# Altium footprint library SR PCB Library V01.PcbLib: 402 footprints (part 16 of 26)
Each footprint in its own frame and in the unit in brackets; x right, y up, seen from the top. Pads: shape width x height; smd on the part's side, far side on the other; paste and mask are expansions set on the pad; w line width, h text height; cw(c..) or ccw(c..) is an arc to the next point about the centre after c.
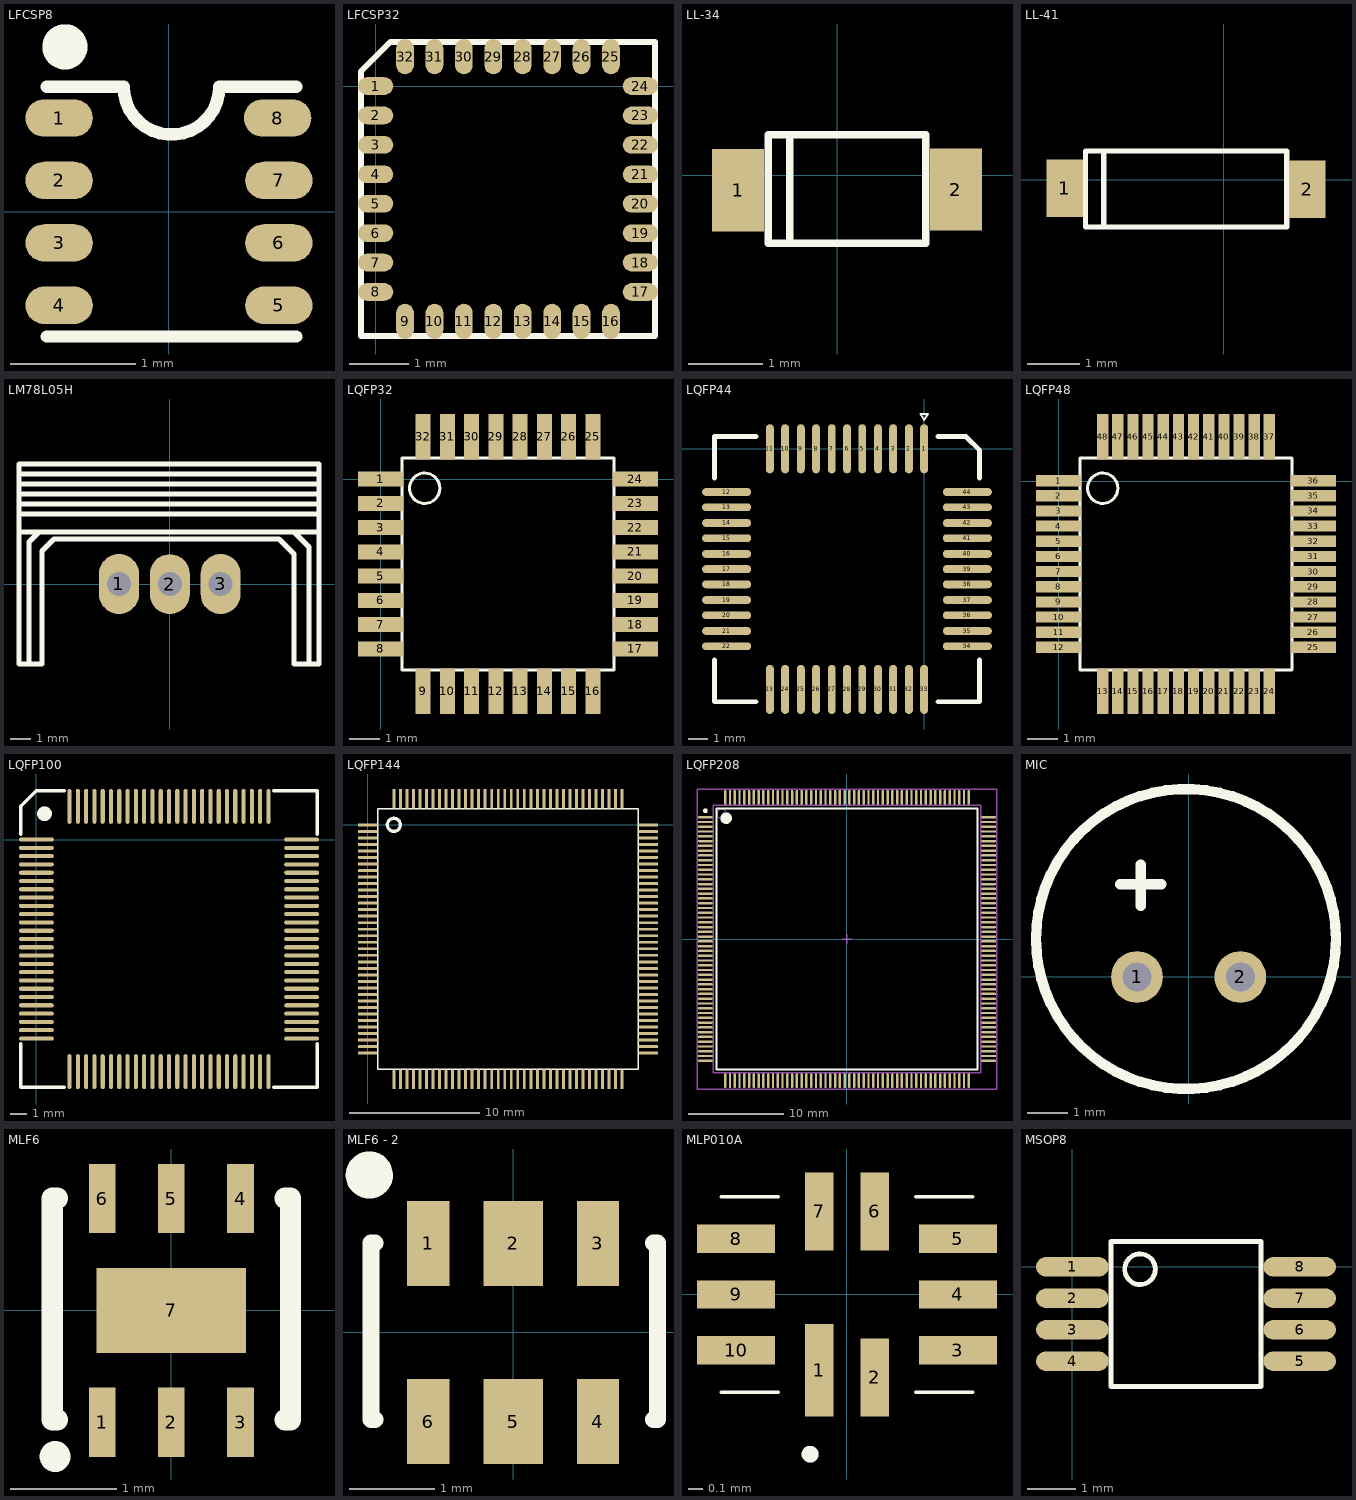
[diagram p15: the footprints below, top view; thin cyan lines are the x and y axes]

## LFCSP8 [mm] "2*2*0.55mm"
pads (8):
  oval 0.54x0.3 smd: 1(-0.88,0.75) 2(-0.88,0.25) 3(-0.88,-0.25) 4(-0.88,-0.75) 5(0.88,-0.75) 6(0.88,-0.25) 7(0.88,0.25) 8(0.87,0.75)
Top Overlay:
  circle w0.254: c-0.834,1.32 r0.054
  lines w0.1: -0.98,-1 1.02,-1 ; -0.98,1 -0.363,1 ccw(c0.02,1) 0.403,1 1.02,1

## LFCSP32 [mm]
pads (32):
  oval 0.6x0.3 smd: 1(0,0) 2(0,-0.5) 3(0,-1) 4(0,-1.5) 5(0,-2) 6(0,-2.5) 7(0,-3) 8(0,-3.5) 17(4.5,-3.5) 18(4.5,-3) 19(4.5,-2.5) 20(4.5,-2) 21(4.5,-1.5) 22(4.5,-1) 23(4.5,-0.5) 24(4.5,0)
  oval 0.3x0.6 smd: 9(0.5,-4) 10(1,-4) 11(1.5,-4) 12(2,-4) 13(2.5,-4) 14(3,-4) 15(3.5,-4) 16(4,-4) 25(4,0.5) 26(3.5,0.5) 27(3,0.5) 28(2.5,0.5) 29(2,0.5) 30(1.5,0.5) 31(1,0.5) 32(0.5,0.5)
Top Overlay:
  lines w0.1: -0.25,-4.25 4.75,-4.25 4.75,0.75 0.25,0.75 -0.25,0.25 -0.25,-4.25

## LL-34 [mm]
pads (2):
  rect 0.7x1.1 smd: 1(-1.329,-0.198) 2(1.589,-0.188)
Top Overlay:
  lines w0.1: -0.637,-0.857 -0.637,0.503 ; -0.924,-0.907 1.183,-0.907 1.183,0.543 -0.924,0.543 -0.924,-0.907

## LL-41 [mm]
pads (2):
  rect 0.7x1.1 smd: 1(-3.039,-0.165) 2(1.598,-0.184)
Top Overlay:
  lines w0.1: -2.295,-0.877 -2.295,0.531 ; -2.644,-0.907 1.206,-0.907 1.206,0.548 -2.644,0.548 -2.644,-0.907

## LM78L05H [mm]
pads (3):
  oval 2x3 hole 1.2: 1(-2.544,0.006) 2(0,0) 3(2.536,0.006)
Top Overlay:
  lines w0.254: -7.544,2.61 7.456,2.61 ; -7.544,3.506 7.456,3.506 ; -7.544,4.006 7.456,4.006 ; -7.544,4.506 7.456,4.506 ; -7.544,5.006 7.456,5.006 ; -7.544,5.506 7.456,5.506 ; -7.044,-3.994 -7.044,2.11 -6.544,2.61 ; 6.206,2.61 6.956,1.86 6.956,-3.994 ; -7.544,-3.994 -7.544,6.006 7.456,6.006 7.456,-3.994 6.206,-3.994 6.206,1.506 5.456,2.256 -5.794,2.256 -6.392,1.658 -6.392,-3.994 -7.544,-3.994

## LQFP32 [mm]
pads (32):
  rect 1.5x0.5 smd: 1(0,0) 2(0,-0.8) 3(0,-1.6) 4(0,-2.4) 5(0,-3.2) 6(0,-4) 7(0,-4.8) 8(0,-5.6) 17(8.4,-5.6) 18(8.4,-4.8) 19(8.4,-4) 20(8.4,-3.2) 21(8.4,-2.4) 22(8.4,-1.6) 23(8.4,-0.8) 24(8.4,0)
  rect 0.5x1.5 smd: 9(1.4,-7) 10(2.2,-7) 11(3,-7) 12(3.8,-7) 13(4.6,-7) 14(5.4,-7) 15(6.2,-7) 16(7,-7) 25(7,1.4) 26(6.2,1.4) 27(5.4,1.4) 28(4.6,1.4) 29(3.8,1.4) 30(3,1.4) 31(2.2,1.4) 32(1.4,1.4)
Top Overlay:
  circle w0.1: c1.45,-0.3 r0.5
  lines w0.1: 0.7,-6.3 0.7,0.7 7.7,0.7 7.7,-6.3 0.7,-6.3

## LQFP44 [mil]
height 68.9
pads (44):
  oval 16x100 smd: 1(0,0) 2(-31,0) 3(-63,0) 4(-94,0) 5(-126,0) 6(-157,0) 7(-188,0) 8(-220,0) 9(-251,0) 10(-283,0) 11(-314,0) 23(-314,-490) 24(-283,-490) 25(-251,-490) 26(-220,-490) 27(-188,-490) 28(-157,-490) 29(-126,-490) 30(-94,-490) 31(-63,-490) 32(-31,-490) 33(0,-490)
  oval 100x16 smd: 12(-402,-88) 13(-402,-119) 14(-402,-151) 15(-402,-182) 16(-402,-214) 17(-402,-245) 18(-402,-276) 19(-402,-308) 20(-402,-339) 21(-402,-371) 22(-402,-402) 34(88,-402) 35(88,-371) 36(88,-339) 37(88,-308) 38(88,-276) 39(88,-245) 40(88,-214) 41(88,-182) 42(88,-151) 43(88,-119) 44(88,-88)
Top Overlay:
  lines w3.94: -7.87,70.87 7.87,70.87 0,59.05 -7.87,70.87
  lines w10: -427,-430 -427,-515 -342,-515 ; -427,-60 -427,25 -342,25 ; 28,-515 113,-515 113,-430 ; 28,25 85,25 113,-3 113,-60

## LQFP48 [mm]
pads (48):
  rect 1.5x0.37 smd: 1(0,0.02) 2(0,-0.48) 3(0,-0.98) 4(0,-1.48) 5(0,-1.98) 6(0,-2.48) 7(0,-2.98) 8(0,-3.48) 9(0,-3.98) 10(0,-4.48) 11(0,-4.98) 12(0,-5.48) 25(8.4,-5.48) 26(8.4,-4.98) 27(8.4,-4.48) 28(8.4,-3.98) 29(8.4,-3.48) 30(8.4,-2.98) 31(8.4,-2.48) 32(8.4,-1.98) 33(8.4,-1.48) 34(8.4,-0.98) 35(8.4,-0.48) 36(8.4,0.02)
  rect 0.37x1.5 smd: 13(1.45,-6.93) 14(1.95,-6.93) 15(2.45,-6.93) 16(2.95,-6.93) 17(3.45,-6.93) 18(3.95,-6.93) 19(4.45,-6.93) 20(4.95,-6.93) 21(5.45,-6.93) 22(5.95,-6.93) 23(6.45,-6.93) 24(6.95,-6.93) 37(6.95,1.47) 38(6.45,1.47) 39(5.95,1.47) 40(5.45,1.47) 41(4.95,1.47) 42(4.45,1.47) 43(3.95,1.47) 44(3.45,1.47) 45(2.95,1.47) 46(2.45,1.47) 47(1.95,1.47) 48(1.45,1.47)
Top Overlay:
  circle w0.1: c1.45,-0.23 r0.5
  lines w0.1: 0.7,-6.23 7.7,-6.23 7.7,0.77 0.7,0.77 0.7,-6.23

## LQFP100 [mm]
height 0.5
pads (100):
  oval 2.1x0.25 smd: 1(0,0) 2(0,-0.5) 3(0,-1) 4(0,-1.5) 5(0,-2) 6(0,-2.5) 7(0,-3) 8(0,-3.5) 9(0,-4) 10(0,-4.5) 11(0,-5) 12(0,-5.5) 13(0,-6) 14(0,-6.5) 15(0,-7) 16(0,-7.5) 17(0,-8) 18(0,-8.5) 19(0,-9) 20(0,-9.5) 21(0,-10) 22(0,-10.5) 23(0,-11) 24(0,-11.5) 25(0,-12) 51(16,-12) 52(16,-11.5) 53(16,-11) 54(16,-10.5) 55(16,-10) 56(16,-9.5) 57(16,-9) 58(16,-8.5) 59(16,-8) 60(16,-7.5) 61(16,-7) 62(16,-6.5) 63(16,-6) 64(16,-5.5) 65(16,-5) 66(16,-4.5) 67(16,-4) 68(16,-3.5) 69(16,-3) 70(16,-2.5) 71(16,-2) 72(16,-1.5) 73(16,-1) 74(16,-0.5) 75(16,0)
  oval 0.25x2.1 smd: 26(2,-14) 27(2.5,-14) 28(3,-14) 29(3.5,-14) 30(4,-14) 31(4.5,-14) 32(5,-14) 33(5.5,-14) 34(6,-14) 35(6.5,-14) 36(7,-14) 37(7.5,-14) 38(8,-14) 39(8.5,-14) 40(9,-14) 41(9.5,-14) 42(10,-14) 43(10.5,-14) 44(11,-14) 45(11.5,-14) 46(12,-14) 47(12.5,-14) 48(13,-14) 49(13.5,-14) 50(14,-14) 76(14,2) 77(13.5,2) 78(13,2) 79(12.5,2) 80(12,2) 81(11.5,2) 82(11,2) 83(10.5,2) 84(10,2) 85(9.5,2) 86(9,2) 87(8.5,2) 88(8,2) 89(7.5,2) 90(7,2) 91(6.5,2) 92(6,2) 93(5.5,2) 94(5,2) 95(4.5,2) 96(4,2) 97(3.5,2) 98(3,2) 99(2.5,2) 100(2,2)
Top Overlay:
  circle w0.7: c0.49,1.56 r0.09
  lines w0.2: -0.95,-12.3 -0.95,-14.95 1.7,-14.95 ; -0.95,0.3 -0.95,2 0,2.95 1.7,2.95 ; 14.3,-14.95 16.95,-14.95 16.95,-12.3 ; 14.3,2.95 16.95,2.95 16.95,0.3

## LQFP144 [mm]
pads (144):
  rect 1.5x0.22 smd: 1(0,0) 2(0,-0.5) 3(0,-1) 4(0,-1.5) 5(0,-2) 6(0,-2.5) 7(0,-3) 8(0,-3.5) 9(0,-4) 10(0,-4.5) 11(0,-5) 12(0,-5.5) 13(0,-6) 14(0,-6.5) 15(0,-7) 16(0,-7.5) 17(0,-8) 18(0,-8.5) 19(0,-9) 20(0,-9.5) 21(0,-10) 22(0,-10.5) 23(0,-11) 24(0,-11.5) 25(0,-12) 26(0,-12.5) 27(0,-13) 28(0,-13.5) 29(0,-14) 30(0,-14.5) 31(0,-15) 32(0,-15.5) 33(0,-16) 34(0,-16.5) 35(0,-17) 36(0,-17.5) 73(21.5,-17.5) 74(21.5,-17) 75(21.5,-16.5) 76(21.5,-16) 77(21.5,-15.5) 78(21.5,-15) 79(21.5,-14.5) 80(21.5,-14) 81(21.5,-13.5) 82(21.5,-13) 83(21.5,-12.5) 84(21.5,-12) 85(21.5,-11.5) 86(21.5,-11) 87(21.5,-10.5) 88(21.5,-10) 89(21.5,-9.5) 90(21.5,-9) 91(21.5,-8.5) 92(21.5,-8) 93(21.5,-7.5) 94(21.5,-7) 95(21.5,-6.5) 96(21.5,-6) 97(21.5,-5.5) 98(21.5,-5) 99(21.5,-4.5) 100(21.5,-4) 101(21.5,-3.5) 102(21.5,-3) 103(21.5,-2.5) 104(21.5,-2) 105(21.5,-1.5) 106(21.5,-1) 107(21.5,-0.5) 108(21.5,0)
  rect 0.22x1.5 smd: 37(2,-19.5) 38(2.5,-19.5) 39(3,-19.5) 40(3.5,-19.5) 41(4,-19.5) 42(4.5,-19.5) 43(5,-19.5) 44(5.5,-19.5) 45(6,-19.5) 46(6.5,-19.5) 47(7,-19.5) 48(7.5,-19.5) 49(8,-19.5) 50(8.5,-19.5) 51(9,-19.5) 52(9.5,-19.5) 53(10,-19.5) 54(10.5,-19.5) 55(11,-19.5) 56(11.5,-19.5) 57(12,-19.5) 58(12.5,-19.5) 59(13,-19.5) 60(13.5,-19.5) 61(14,-19.5) 62(14.5,-19.5) 63(15,-19.5) 64(15.5,-19.5) 65(16,-19.5) 66(16.5,-19.5) 67(17,-19.5) 68(17.5,-19.5) 69(18,-19.5) 70(18.5,-19.5) 71(19,-19.5) 72(19.5,-19.5) 109(19.5,2) 110(19,2) 111(18.5,2) 112(18,2) 113(17.5,2) 114(17,2) 115(16.5,2) 116(16,2) 117(15.5,2) 118(15,2) 119(14.5,2) 120(14,2) 121(13.5,2) 122(13,2) 123(12.5,2) 124(12,2) 125(11.5,2) 126(11,2) 127(10.5,2) 128(10,2) 129(9.5,2) 130(9,2) 131(8.5,2) 132(8,2) 133(7.5,2) 134(7,2) 135(6.5,2) 136(6,2) 137(5.5,2) 138(5,2) 139(4.5,2) 140(4,2) 141(3.5,2) 142(3,2) 143(2.5,2) 144(2,2)
Top Overlay:
  circle w0.254: c2,0 r0.5
  lines w0.1: 0.75,-18.75 20.75,-18.75 20.75,1.25 0.75,1.25 0.75,-18.75

## LQFP208 [mm]
height 11.5
pads (208):
  oval 1.55x0.25 smd: 1(-14.825,12.75) 2(-14.825,12.25) 3(-14.825,11.75) 4(-14.825,11.25) 5(-14.825,10.75) 6(-14.825,10.25) 7(-14.825,9.75) 8(-14.825,9.25) 9(-14.825,8.75) 10(-14.825,8.25) 11(-14.825,7.75) 12(-14.825,7.25) 13(-14.825,6.75) 14(-14.825,6.25) 15(-14.825,5.75) 16(-14.825,5.25) 17(-14.825,4.75) 18(-14.825,4.25) 19(-14.825,3.75) 20(-14.825,3.25) 21(-14.825,2.75) 22(-14.825,2.25) 23(-14.825,1.75) 24(-14.825,1.25) 25(-14.825,0.75) 26(-14.825,0.25) 27(-14.825,-0.25) 28(-14.825,-0.75) 29(-14.825,-1.25) 30(-14.825,-1.75) 31(-14.825,-2.25) 32(-14.825,-2.75) 33(-14.825,-3.25) 34(-14.825,-3.75) 35(-14.825,-4.25) 36(-14.825,-4.75) 37(-14.825,-5.25) 38(-14.825,-5.75) 39(-14.825,-6.25) 40(-14.825,-6.75) 41(-14.825,-7.25) 42(-14.825,-7.75) 43(-14.825,-8.25) 44(-14.825,-8.75) 45(-14.825,-9.25) 46(-14.825,-9.75) 47(-14.825,-10.25) 48(-14.825,-10.75) 49(-14.825,-11.25) 50(-14.825,-11.75) 51(-14.825,-12.25) 52(-14.825,-12.75) 105(14.825,-12.75) 106(14.825,-12.25) 107(14.825,-11.75) 108(14.825,-11.25) 109(14.825,-10.75) 110(14.825,-10.25) 111(14.825,-9.75) 112(14.825,-9.25) 113(14.825,-8.75) 114(14.825,-8.25) 115(14.825,-7.75) 116(14.825,-7.25) 117(14.825,-6.75) 118(14.825,-6.25) 119(14.825,-5.75) 120(14.825,-5.25) 121(14.825,-4.75) 122(14.825,-4.25) 123(14.825,-3.75) 124(14.825,-3.25) 125(14.825,-2.75) 126(14.825,-2.25) 127(14.825,-1.75) 128(14.825,-1.25) 129(14.825,-0.75) 130(14.825,-0.25) 131(14.825,0.25) 132(14.825,0.75) 133(14.825,1.25) 134(14.825,1.75) 135(14.825,2.25) 136(14.825,2.75) 137(14.825,3.25) 138(14.825,3.75) 139(14.825,4.25) 140(14.825,4.75) 141(14.825,5.25) 142(14.825,5.75) 143(14.825,6.25) 144(14.825,6.75) 145(14.825,7.25) 146(14.825,7.75) 147(14.825,8.25) 148(14.825,8.75) 149(14.825,9.25) 150(14.825,9.75) 151(14.825,10.25) 152(14.825,10.75) 153(14.825,11.25) 154(14.825,11.75) 155(14.825,12.25) 156(14.825,12.75)
  oval 0.25x1.55 smd: 53(-12.75,-14.825) 54(-12.25,-14.825) 55(-11.75,-14.825) 56(-11.25,-14.825) 57(-10.75,-14.825) 58(-10.25,-14.825) 59(-9.75,-14.825) 60(-9.25,-14.825) 61(-8.75,-14.825) 62(-8.25,-14.825) 63(-7.75,-14.825) 64(-7.25,-14.825) 65(-6.75,-14.825) 66(-6.25,-14.825) 67(-5.75,-14.825) 68(-5.25,-14.825) 69(-4.75,-14.825) 70(-4.25,-14.825) 71(-3.75,-14.825) 72(-3.25,-14.825) 73(-2.75,-14.825) 74(-2.25,-14.825) 75(-1.75,-14.825) 76(-1.25,-14.825) 77(-0.75,-14.825) 78(-0.25,-14.825) 79(0.25,-14.825) 80(0.75,-14.825) 81(1.25,-14.825) 82(1.75,-14.825) 83(2.25,-14.825) 84(2.75,-14.825) 85(3.25,-14.825) 86(3.75,-14.825) 87(4.25,-14.825) 88(4.75,-14.825) 89(5.25,-14.825) 90(5.75,-14.825) 91(6.25,-14.825) 92(6.75,-14.825) 93(7.25,-14.825) 94(7.75,-14.825) 95(8.25,-14.825) 96(8.75,-14.825) 97(9.25,-14.825) 98(9.75,-14.825) 99(10.25,-14.825) 100(10.75,-14.825) 101(11.25,-14.825) 102(11.75,-14.825) 103(12.25,-14.825) 104(12.75,-14.825) 157(12.75,14.825) 158(12.25,14.825) 159(11.75,14.825) 160(11.25,14.825) 161(10.75,14.825) 162(10.25,14.825) 163(9.75,14.825) 164(9.25,14.825) 165(8.75,14.825) 166(8.25,14.825) 167(7.75,14.825) 168(7.25,14.825) 169(6.75,14.825) 170(6.25,14.825) 171(5.75,14.825) 172(5.25,14.825) 173(4.75,14.825) 174(4.25,14.825) 175(3.75,14.825) 176(3.25,14.825) 177(2.75,14.825) 178(2.25,14.825) 179(1.75,14.825) 180(1.25,14.825) 181(0.75,14.825) 182(0.25,14.825) 183(-0.25,14.825) 184(-0.75,14.825) 185(-1.25,14.825) 186(-1.75,14.825) 187(-2.25,14.825) 188(-2.75,14.825) 189(-3.25,14.825) 190(-3.75,14.825) 191(-4.25,14.825) 192(-4.75,14.825) 193(-5.25,14.825) 194(-5.75,14.825) 195(-6.25,14.825) 196(-6.75,14.825) 197(-7.25,14.825) 198(-7.75,14.825) 199(-8.25,14.825) 200(-8.75,14.825) 201(-9.25,14.825) 202(-9.75,14.825) 203(-10.25,14.825) 204(-10.75,14.825) 205(-11.25,14.825) 206(-11.75,14.825) 207(-12.25,14.825) 208(-12.75,14.825)
Top Overlay:
  circle w0.25: c-14.825,13.425 r0.125
  circle w0.6: c-12.65,12.65 r0.3
  lines w0.2: -13.65,-13.65 -13.65,13.65 13.65,13.65 13.65,-13.65 -13.65,-13.65
Mechanical 13:
  circle w0.1: c-13.1,13.1 r0.5
  lines w0.15: -14,-14 -14,14 14,14 14,-14 -14,-14
Mechanical 15:
  lines w0.15: -0.5,0 0.5,0 ; 0,-0.5 0,0.5 ; -15.7,-15.7 -15.7,15.7 15.7,15.7 15.7,-15.7 -15.7,-15.7

## MIC [mil]
pads (2):
  round 50 hole 28: 1(-50,0) 2(50,0)
Top Overlay:
  circle w10: c-2.59,36.71 r145.16
  lines w10: -66.42,89.71 -26.42,89.71 ; -46.42,68.71 -46.42,108.71

## MLF6 [mm]
height 1.5
pads (7):
  rect 0.25x0.65 smd: 1(-0.65,-1.05) 2(0,-1.05) 3(0.65,-1.05) 4(0.65,1.05) 5(0,1.05) 6(-0.65,1.05)
  rect 1.4x0.8 smd: 7(0,0)
Top Overlay:
  circle w0.15: c-1.091,-1.372 r0.07
  lines w0.2: -1.118,-1.027 -1.068,-1.027 ; -1.118,-1.016 -1.118,1.041 ; -1.118,1.052 -1.068,1.052 ; 1.068,-1.027 1.118,-1.027 ; 1.068,1.052 1.118,1.052 ; 1.118,-1.016 1.118,1.041

## MLF6 - 2 [mm] "?"
height 1.5
pads (6):
  rect 0.5x1 smd: 1(-1,1.05) 3(1,1.05) 4(1,-1.05) 6(-1,-1.05)
  rect 0.7x1 smd: 2(0,1.05) 5(0,-1.05)
Top Overlay:
  lines w0.2: -1.677,-1.027 -1.627,-1.027 ; -1.677,-1.016 -1.677,1.041 ; -1.677,1.052 -1.627,1.052 ; 1.652,-1.027 1.702,-1.027 ; 1.652,1.052 1.702,1.052 ; 1.702,-1.016 1.702,1.041
  lines w0.3: -1.575,1.905 ccw(c-1.694,1.856) -1.565,1.856

## MLP010A [mil]
height 19.68
pads (10):
  rect 8x26 smd: 1(-7.87,-21.38)
  rect 8x22 smd: 2(7.87,-23.38) 6(7.87,23.38) 7(-7.87,23.38)
  rect 22x8 smd: 3(31.26,-15.75) 4(31.26,0) 5(31.26,15.75) 8(-31.26,15.75) 9(-31.26,0) 10(-31.26,-15.75)
Top Overlay:
  circle w3.94: c-10.39,-45 r0.39
  lines w1: -35.43,-27.56 -19.44,-27.56 ; -35.43,27.56 -19.44,27.56 ; 19.44,-27.56 35.43,-27.56 ; 19.44,27.56 35.43,27.56

## MSOP8 [mm]
pads (8):
  oval 1.5x0.4 smd: 1(0,0) 2(0,-0.65) 3(0,-1.3) 4(0,-1.95) 5(4.7,-1.95) 6(4.7,-1.3) 7(4.7,-0.65) 8(4.7,0)
Top Overlay:
  circle w0.1: c1.4,-0.05 r0.316
  lines w0.1: 0.8,-2.475 3.9,-2.475 3.9,0.525 0.8,0.525 0.8,-2.475